# EAGLE library part TEXAS_LM43602 (library LinkedLibrary52101)
Synchronous Step-Down Voltage Converter SIMPLE SWITCHER 3.5 V to 36 V 2-A
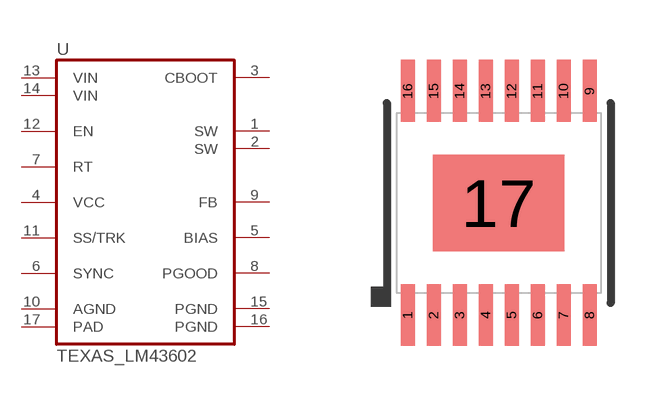
[diagram p15: symbol with the pads of TEXAS_HTSSOP16; footprint TEXAS_HTSSOP16]

Designator prefix U

## TEXAS_LM43602  [TEXAS_HTSSOP16]
1  SW  pas
2  SW  pas
3  CBOOT  pas
4  VCC  in
5  BIAS  in
6  SYNC  in
7  RT
8  PGOOD  in
9  FB  in
10  AGND  pwr
11  SS/TRK  in
12  EN  in
13  VIN  in
14  VIN  in
15  PGND  pwr
16  PGND  pwr
17  PAD  pwr

## Footprint TEXAS_HTSSOP16 (pad centres in mm)
HTSSOP14 PowerPAD (R-PDSO-G16) pitch 0.635 mm, body 4.5 mm x 5.1 mm
smd 0.35 x 1.55: 1 -2.275,-2.8; 2 -1.625,-2.8; 3 -0.975,-2.8; 4 -0.325,-2.8; 5 0.325,-2.8; 6 0.975,-2.8; 7 1.625,-2.8; 8 2.275,-2.8; 9 2.275,2.8; 10 1.625,2.8; 11 0.975,2.8; 12 0.325,2.8; 13 -0.325,2.8; 14 -0.975,2.8; 15 -1.625,2.8; 16 -2.275,2.8
smd 3.29 x 2.41: 17 0,0